# Altium schematic symbol library PD0810J5050S2HF.Schlib: 1 symbol
Pins are listed as number, name and electrical type; pins without a type are passive.

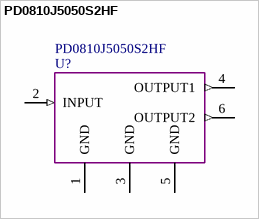
[diagram p0: symbol PD0810J5050S2HF]

## PD0810J5050S2HF
designator U?
pins: 1 GND, 2 INPUT (in), 3 GND, 4 OUTPUT1 (out), 5 GND (power), 6 OUTPUT2 (out)
2 alternate drawings of the same symbol